# EAGLE library part POLOLU_CP2104 (library POLOLU_CP2104)
TTL zu USB Konverter
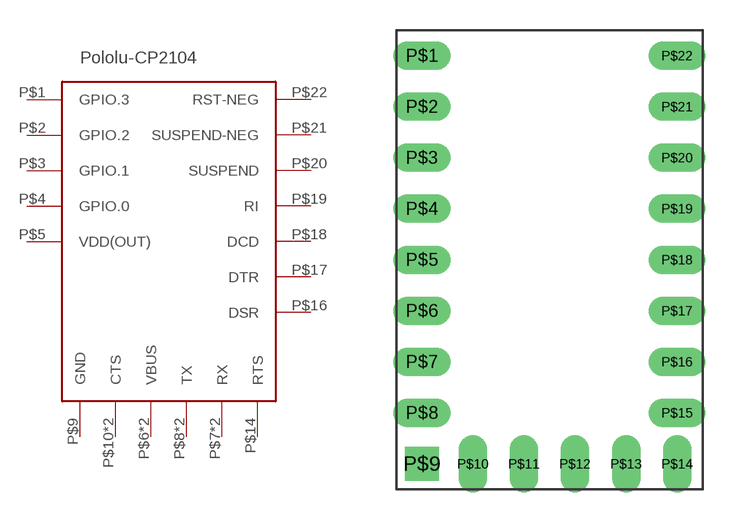
[diagram p0: symbol with the pads of POLOLUCP2104; footprint POLOLUCP2104]

Designator prefix -

## POLOLU_CP2104  [POLOLUCP2104]
P$1  GPIO.3
P$2  GPIO.2
P$3  GPIO.1
P$4  GPIO.0
P$5  VDD(OUT)  pwr
P$6  VBUS  pwr
P$7  RX  in
P$8  TX  out
P$9  GND  pwr
P$10  CTS  in
P$11  VBUS  pwr
P$12  TX  out
P$13  RX  in
P$14  RTS  out
P$15  CTS  in
P$16  DSR  in
P$17  DTR  out
P$18  DCD  in
P$19  RI  in
P$20  SUSPEND  out
P$21  SUSPEND-NEG  out
P$22  RST-NEG  in

## Footprint POLOLUCP2104 (pad centres in mm)
drill 0.9 pad 1.422 long: P$1 1.27,-1.27; P$2 1.27,-3.81; P$3 1.27,-6.35; P$4 1.27,-8.89; P$5 1.27,-11.43; P$6 1.27,-13.97; P$7 1.27,-16.51; P$8 1.27,-19.05; P$10 3.81,-21.59; P$11 6.35,-21.59; P$12 8.89,-21.59; P$13 11.43,-21.59; P$14 13.97,-21.59; P$15 13.97,-19.05; P$16 13.97,-16.51; P$17 13.97,-13.97; P$18 13.97,-11.43; P$19 13.97,-8.89; P$20 13.97,-6.35; P$21 13.97,-3.81; P$22 13.97,-1.27
drill 0.9 pad 1.676 square: P$9 1.27,-21.59